# EAGLE library part CONNECTOR-RJ45 (library RelayBoard)
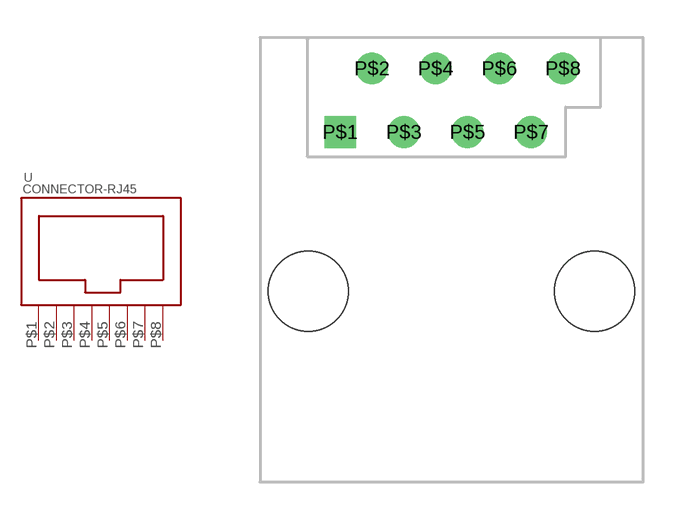
[diagram p4: symbol with the pads of CON-JACK-RJ45-FCI; footprint CON-JACK-RJ45-FCI]

Designator prefix -

## CONNECTOR-RJ45  [CON-JACK-RJ45-FCI]
P$1  P$1
P$2  P$2
P$3  P$3  oc
P$4  P$4  pwr
P$5  P$5  pwr
P$6  P$6  oc
P$7  P$7  pwr
P$8  P$8  pwr

## Footprint CON-JACK-RJ45-FCI (pad centres in mm)
http://portal.fciconnect.com/Comergent//fci/drawing/c-bmj-0102.pdf
drill 0.76 square: P$1 0,0
drill 0.76: P$2 1.27,2.54; P$3 2.54,0; P$4 3.81,2.54; P$5 5.08,0; P$6 6.35,2.54; P$7 7.62,0; P$8 8.89,2.54
hole 3.2 at -1.27,-6.35
hole 3.2 at 10.16,-6.35